# Altium footprint library SL-DPT100.PcbLib: 41 footprints (part 3 of 3)
Each footprint in its own frame and in the unit in brackets; x right, y up, seen from the top. Pads: shape width x height; smd on the part's side, far side on the other; paste and mask are expansions set on the pad; w line width, h text height; cw(c..) or ccw(c..) is an arc to the next point about the centre after c.
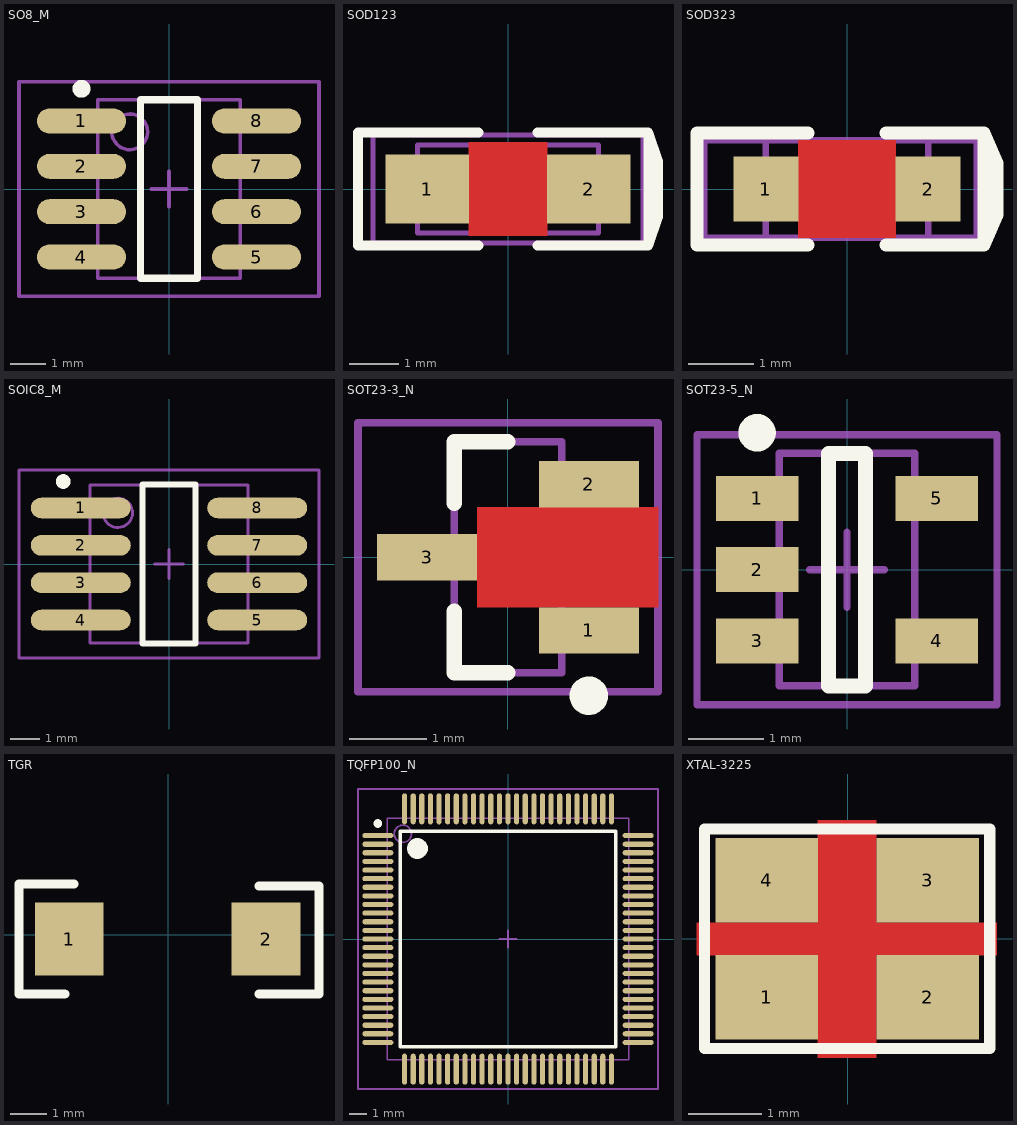
[diagram p2: the footprints below, top view; thin cyan lines are the x and y axes]

## SO8_M [mm] "8-Pin Small Outline Integrated Circuit 1.27 mm Pitch, IPC Low Density"
height 1.75
pads (8):
  oval 2.5x0.7 smd: 1(-2.45,1.905) 2(-2.45,0.635) 3(-2.45,-0.635) 4(-2.45,-1.905) 5(2.45,-1.905) 6(2.45,-0.635) 7(2.45,0.635) 8(2.45,1.905)
Top Overlay:
  circle w0.25: c-2.45,2.805 r0.125
  lines w0.2: -0.8,-2.5 0.8,-2.5 0.8,2.5 -0.8,2.5 -0.8,-2.5
Mechanical 13:
  circle w0.1: c-1.1,1.6 r0.5
  lines w0.1: -2,-2.5 2,-2.5 2,2.5 -2,2.5 -2,-2.5
Mechanical 15:
  lines w0.1: -0.5,0 0.5,0 ; 0,-0.5 0,0.5 ; -4.2,-3 4.2,-3 4.2,3 -4.2,3 -4.2,-3
3D body: height 1.75, standoff 0, extent -2,-2.5 2,2.5

## SOD123 [mm] "SOD-123; 2 Leads; Body 2.7 x 1.6 mm, (LxW)"
height 1.35
pads (2):
  rect 1.7x1.4 smd: 1(-1.65,0) 2(1.65,0)
Top Layer:
  pour cut-out: -0.8,0.95 -0.8,-0.95 0.8,-0.95 0.8,0.95
Top Overlay:
  lines w0.2: -0.6,-1.15 -3.06,-1.15 -3.06,1.15 -0.6,1.15 ; 0.6,-1.15 2.86,-1.15 ; 0.6,1.15 2.86,1.15 ; 2.96,-0.462 2.96,0.485 ; 2.86,-1.15 3.06,-0.575 3.06,0.575 2.86,1.15 ; 2.86,-1.15 2.86,1.15
Mechanical 13:
  lines w0.1: -1.85,-0.9 1.85,-0.9 1.85,0.9 -1.85,0.9 -1.85,-0.9
Mechanical 15:
  lines w0.1: -0.5,0 0.5,0 ; 0,-0.5 0,0.5 ; -2.75,-1.1 2.75,-1.1 2.75,1.1 -2.75,1.1 -2.75,-1.1
3D body: height 1.35, standoff 0, extent -1.85,-0.91 1.85,0.9

## SOD323 [mm] "SOD-323; 2 Leads; Body 2.5 x 1.3 mm, (LxW)"
height 1.35
pads (2):
  rect 1x1 smd: 1(-1.25,0) 2(1.25,0)
Top Layer:
  pour cut-out: -0.75,0.75 -0.75,-0.75 0.75,-0.75 0.75,0.75
Top Overlay:
  lines w0.2: -0.6,-0.86 -2.31,-0.86 -2.31,0.86 -0.6,0.86 ; 0.6,-0.86 2.113,-0.86 ; 0.6,0.86 2.11,0.86 ; 2.21,-0.6 2.21,0.6 ; 2.11,0.86 2.11,-0.86 2.31,-0.4 2.31,0.4 2.11,0.86
Mechanical 13:
  lines w0.1: -1.25,-0.75 -1.25,0.75 1.25,0.75 1.25,-0.75 -1.25,-0.75
Mechanical 15:
  lines w0.1: -0.5,0 0.5,0 ; 0,-0.5 0,0.5 ; -2.2,-0.75 -2.2,0.75 2,0.75 2,-0.75 -2.2,-0.75
3D body: height 1.35, standoff 0, extent -1.25,-0.75 1.25,0.75

## SOIC8_M [mm] "SOIC, 8-Leads, Body 5.4x5.4mm (max), Pitch 1.27mm, IPC Low Density"
height 2.16
pads (8):
  oval 3.4x0.7 smd: 1(-3,1.905) 2(-3,0.635) 3(-3,-0.635) 4(-3,-1.905) 5(3,-1.905) 6(3,-0.635) 7(3,0.635) 8(3,1.905)
Top Overlay:
  circle w0.25: c-3.6,2.805 r0.125
  lines w0.2: -0.9,-2.7 0.9,-2.7 0.9,2.7 -0.9,2.7 -0.9,-2.7
Mechanical 13:
  circle w0.1: c-1.74,1.74 r0.5
  lines w0.1: -2.69,-2.69 2.69,-2.69 2.69,2.69 -2.69,2.69 -2.69,-2.69
Mechanical 15:
  lines w0.1: -0.5,0 0.5,0 ; 0,-0.5 0,0.5 ; -5.1,-3.2 5.1,-3.2 5.1,3.2 -5.1,3.2 -5.1,-3.2
3D body: height 2.16, standoff 0.05, extent -2.69,-2.69 2.69,2.69

## SOT23-3_N [mm] "SOT23, 3-Leads, Body 2.9x1.3mm, Pitch 0.95mm, Lead Span 2.3mm, IPC Medium Density"
height 1.2
pads (3):
  rect 1.3x0.6 smd: 1(1.05,-0.95) 2(1.05,0.95) 3(-1.05,0)
Top Layer:
  pour cut-out: 1.95,-0.65 -0.4,-0.65 -0.4,0.65 1.95,0.65
Top Overlay:
  circle w0.25: c1.05,-1.8 r0.125
  lines w0.2: -0.7,-0.7 -0.7,-1.5 0,-1.5 ; -0.7,0.7 -0.7,1.5 0,1.5
Mechanical 13:
  lines w0.1: -0.7,-1.5 -0.7,1.5 0.7,1.5 0.7,-1.5 -0.7,-1.5
Mechanical 15:
  lines w0.1: -0.5,0 0.5,0 ; 0,-0.5 0,0.5 ; -1.95,-1.75 -1.95,1.75 1.95,1.75 1.95,-1.75 -1.95,-1.75
3D body: height 1.2, standoff 0, extent -0.7,-1.5 0.7,1.5

## SOT23-5_N [mm] "SOT23, 5-Leads, Body 2.9x1.6mm, Pitch 0.95mm, Lead Span 2.8mm, IPC Medium Density"
height 1.45
pads (5):
  rect 1.1x0.6 smd: 1(-1.2,0.95) 2(-1.2,0) 3(-1.2,-0.95) 4(1.2,-0.95) 5(1.2,0.95)
Top Overlay:
  circle w0.25: c-1.2,1.825 r0.125
  lines w0.2: -0.25,-1.55 -0.25,1.55 0.25,1.55 0.25,-1.55 -0.25,-1.55
Mechanical 13:
  lines w0.1: -0.9,-1.55 0.9,-1.55 0.9,1.55 -0.9,1.55 -0.9,-1.55
Mechanical 15:
  lines w0.1: -0.5,0 0.5,0 ; 0,-0.5 0,0.5 ; -2,-1.8 2,-1.8 2,1.8 -2,1.8 -2,-1.8
3D body: height 1.45, standoff 0, extent -0.9,-1.55 0.9,1.55

## TGR [mil]
pads (2):
  rect 75x80 smd: 1(-107.94,-4.4) 2(107.07,-4.4)
Top Overlay:
  lines w10: -162.93,-64.4 -112.93,-64.4 ; -162.93,-62.4 -162.93,53.6 ; -162.93,55.6 -102.93,55.6 ; 99.57,-64.4 165,-64.4 165,53.6 99.57,53.6

## TQFP100_N [mm] "100-Pin Thin Quad Flat Pack 0.5 mm Pitch, IPC Medium Density"
height 1.6
pads (100):
  oval 1.8x0.3 smd: 1(-7.55,6) 2(-7.55,5.5) 3(-7.55,5) 4(-7.55,4.5) 5(-7.55,4) 6(-7.55,3.5) 7(-7.55,3) 8(-7.55,2.5) 9(-7.55,2) 10(-7.55,1.5) 11(-7.55,1) 12(-7.55,0.5) 13(-7.55,0) 14(-7.55,-0.5) 15(-7.55,-1) 16(-7.55,-1.5) 17(-7.55,-2) 18(-7.55,-2.5) 19(-7.55,-3) 20(-7.55,-3.5) 21(-7.55,-4) 22(-7.55,-4.5) 23(-7.55,-5) 24(-7.55,-5.5) 25(-7.55,-6) 51(7.55,-6) 52(7.55,-5.5) 53(7.55,-5) 54(7.55,-4.5) 55(7.55,-4) 56(7.55,-3.5) 57(7.55,-3) 58(7.55,-2.5) 59(7.55,-2) 60(7.55,-1.5) 61(7.55,-1) 62(7.55,-0.5) 63(7.55,0) 64(7.55,0.5) 65(7.55,1) 66(7.55,1.5) 67(7.55,2) 68(7.55,2.5) 69(7.55,3) 70(7.55,3.5) 71(7.55,4) 72(7.55,4.5) 73(7.55,5) 74(7.55,5.5) 75(7.55,6)
  oval 0.3x1.8 smd: 26(-6,-7.55) 27(-5.5,-7.55) 28(-5,-7.55) 29(-4.5,-7.55) 30(-4,-7.55) 31(-3.5,-7.55) 32(-3,-7.55) 33(-2.5,-7.55) 34(-2,-7.55) 35(-1.5,-7.55) 36(-1,-7.55) 37(-0.5,-7.55) 38(0,-7.55) 39(0.5,-7.55) 40(1,-7.55) 41(1.5,-7.55) 42(2,-7.55) 43(2.5,-7.55) 44(3,-7.55) 45(3.5,-7.55) 46(4,-7.55) 47(4.5,-7.55) 48(5,-7.55) 49(5.5,-7.55) 50(6,-7.55) 76(6,7.55) 77(5.5,7.55) 78(5,7.55) 79(4.5,7.55) 80(4,7.55) 81(3.5,7.55) 82(3,7.55) 83(2.5,7.55) 84(2,7.55) 85(1.5,7.55) 86(1,7.55) 87(0.5,7.55) 88(0,7.55) 89(-0.5,7.55) 90(-1,7.55) 91(-1.5,7.55) 92(-2,7.55) 93(-2.5,7.55) 94(-3,7.55) 95(-3.5,7.55) 96(-4,7.55) 97(-4.5,7.55) 98(-5,7.55) 99(-5.5,7.55) 100(-6,7.55)
Top Overlay:
  circle w0.6: c-5.25,5.25 r0.3
  circle w0.25: c-7.55,6.7 r0.125
  lines w0.2: -6.25,-6.25 6.25,-6.25 6.25,6.25 -6.25,6.25 -6.25,-6.25
Mechanical 13:
  circle w0.1: c-6.1,6.1 r0.5
  lines w0.1: -7,-7 7,-7 7,7 -7,7 -7,-7
Mechanical 15:
  lines w0.1: -0.5,0 0.5,0 ; 0,-0.5 0,0.5 ; -8.7,-8.7 8.7,-8.7 8.7,8.7 -8.7,8.7 -8.7,-8.7
3D body: height 1.6, standoff 0, extent -7,-7 7,7

## XTAL-3225 [mm]
height 1.6
pads (4):
  rect 1.4x1.15 smd: 1(-1.108,-0.802) 2(1.092,-0.802) 3(1.092,0.798) 4(-1.108,0.798)
Top Layer:
  pour cut-out: -0.41,1.62 0.39,1.62 0.39,0.22 2.04,0.22 2.04,-0.23 0.39,-0.23 0.39,-1.63 -0.41,-1.63 -0.41,-0.23 -2.06,-0.23 -2.06,0.22 -0.41,0.22
Top Overlay:
  lines w0.152: -1.958,-1.502 -1.958,1.498 1.942,1.498 1.942,-1.502 -1.958,-1.502